# EAGLE library part LTC3531 (library omcPwrSupply)
LTC3531 - High Efficiency SO-8 N-Channel Switching Regulator Controller N-Channel MOSFET Drive Implements Boost, Step-Down, SEPIC and Inverting Regulators Wide VIN Range: 3.5V to 36V Operation Wide VOUT Range: 1.19V to 30V in Step-Down Configuration ±1% 1.19V Reference Low Dropout Operation: 95% Duty Cycle 200kHz Fixed Frequency Low Standby Current Very High Efficiency Remote Output Voltage Sense Logic-Controlled Micropower Shutdown Internal Diode for Bootstrapped Gate Drive Current Mode Operation for Excellent Line and Load Transient Response Linear Technology Datasheet <http://cds.linear.com/docs/en/datasheet/1624f.pdf>
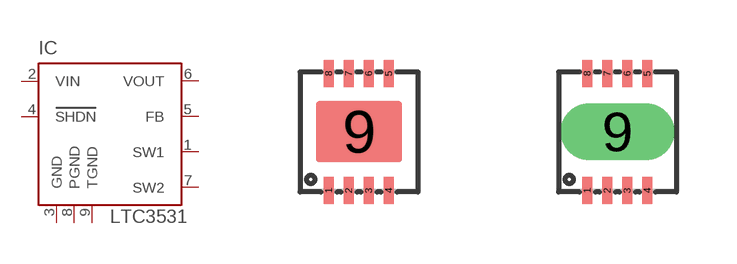
[diagram p4: symbol with the pads of DFN08; footprints DFN08, DFN08-THT]

Designator prefix IC

## LTC3531-ADJ (DIST#CONRAD#: 1257517 - 62; DIST#DIGIKEY#: LTC3531EDD#PBF-ND; VALUE: LTC3531-ADJ; VENDOR#: Linear Technology,LTC3531EDD#PBF)  [DFN08]
1  SW1  pas
2  VIN  pas
3  GND  pwr
4  SHDN  pas
5  FB  pas
6  VOUT  pas
7  SW2  pas
8  PGND  pwr
9  TGND  pwr

## LTC3531-ADJ-THT (DIST#CONRAD#: 1257517 - 62; DIST#REICHELT#: LTC3531EDD#PBF-ND; VALUE: LTC3531-ADJ; VENDOR#: Linear Technology,LTC3531EDD#PBF)  [DFN08-THT]
Pads as for DFN08

## Footprint DFN08 (pad centres in mm)
DFN8 SMD 3mm × 3mm LTC Mechanical <http://cds.linear.com/docs/en/packaging/DFN_8_05-08-1698.pdf>
smd 0.25 x 0.675: 1 -0.76,-1.475; 2 -0.26,-1.475; 3 0.24,-1.475; 4 0.74,-1.475; 5 0.74,1.46; 6 0.24,1.46; 7 -0.26,1.46; 8 -0.76,1.46
smd 2.159 x 1.524: 9 0,0

## Footprint DFN08-THT (pad centres in mm)
DFN8-THT SMD/THT 3mm × 3mm LTC Mechanical <http://cds.linear.com/docs/en/packaging/DFN_8_05-08-1698.pdf> Hint: Allows backside soldering of cental pad in case of using a non reflow soldering process.
smd 0.25 x 0.675: 1 -0.76,-1.475; 2 -0.26,-1.475; 3 0.24,-1.475; 4 0.74,-1.475; 5 0.74,1.46; 6 0.24,1.46; 7 -0.26,1.46; 8 -0.76,1.46
drill 0.8 pad 1.422 long: 9 0,0